# EAGLE library part ADUM4190 (library PowerSocket)
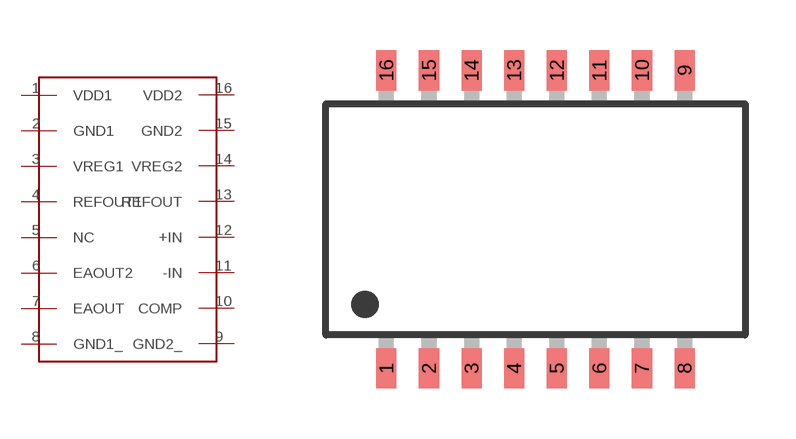
[diagram p1: symbol with the pads of SOIC-16; footprint SOIC-16]

Designator prefix -

## ADUM4190  [SOIC-16]
1  VDD1
2  GND1
3  VREG1
4  REFOUT1
5  NC
6  EAOUT2
7  EAOUT
8  GND1_
9  GND2_
10  COMP
11  -IN
12  +IN
13  REFOUT
14  VREG2
15  GND2
16  VDD2

## Footprint SOIC-16 (pad centres in mm)
smd 0.6 x 1.2: 1 -4.445,-4.445; 2 -3.175,-4.445; 3 -1.905,-4.445; 4 -0.635,-4.445; 5 0.635,-4.445; 6 1.905,-4.445; 7 3.175,-4.445; 8 4.445,-4.445; 9 4.445,4.445; 10 3.175,4.445; 11 1.905,4.445; 12 0.635,4.445; 13 -0.635,4.445; 14 -1.905,4.445; 15 -3.175,4.445; 16 -4.445,4.445